# EAGLE library part USB2412-DZK (library usb2412)
IC, 2-PORT USB 2.0 HUB CNTRL, 28VQFN
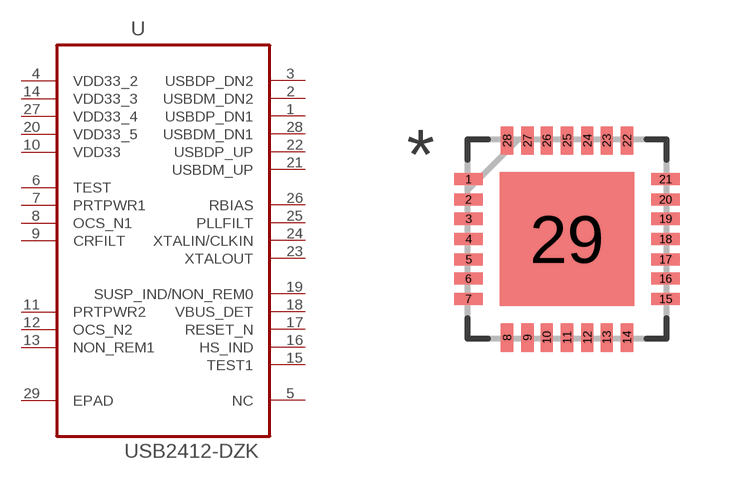
[diagram p0: symbol with the pads of QFN50P500X500X100-29N; footprint QFN50P500X500X100-29N]

Designator prefix U

## USB2412-DZK (MPN: USB2412-DZK; OC_FARNELL: 2292600; OC_NEWARK: 66W2133; PACKAGE: 28VQFN; SUPPLIER: Microchip)  [QFN50P500X500X100-29N]
1  USBDP_DN1
2  USBDM_DN2
3  USBDP_DN2
4  VDD33_2  pwr
5  NC  nc
6  TEST  pas
7  PRTPWR1  pas
8  OCS_N1  pas
9  CRFILT  pas
10  VDD33  pwr
11  PRTPWR2  pas
12  OCS_N2  pas
13  NON_REM1  pas
14  VDD33_3  pwr
15  TEST1  pas
16  HS_IND  pas
17  RESET_N  pas
18  VBUS_DET  pwr
19  SUSP_IND/NON_REM0  pas
20  VDD33_5  pwr
21  USBDM_UP
22  USBDP_UP
23  XTALOUT  pas
24  XTALIN/CLKIN  pas
25  PLLFILT  pas
26  RBIAS  pas
27  VDD33_4  pwr
28  USBDM_DN1
29  EPAD  pas

## Footprint QFN50P500X500X100-29N (pad centres in mm)
smd 0.711 x 0.305: 1 -2.464,1.499; 2 -2.464,0.991; 3 -2.464,0.508; 4 -2.464,0; 5 -2.464,-0.508; 6 -2.464,-0.991; 7 -2.464,-1.499; 15 2.464,-1.499; 16 2.464,-0.991; 17 2.464,-0.508; 18 2.464,0; 19 2.464,0.508; 20 2.464,0.991; 21 2.464,1.499
smd 0.305 x 0.711: 8 -1.499,-2.464; 9 -0.991,-2.464; 10 -0.508,-2.464; 11 0,-2.464; 12 0.508,-2.464; 13 0.991,-2.464; 14 1.499,-2.464; 22 1.499,2.464; 23 0.991,2.464; 24 0.508,2.464; 25 0,2.464; 26 -0.508,2.464; 27 -0.991,2.464; 28 -1.499,2.464
smd 3.353 x 3.353: 29 0,0